# EAGLE library part TPS22918DBVR (library TPS22918DBVR)
5.5V, 2A, 52m load switch with adjustable rise time and adjustable quick output discharge Source: Datasheet <http://www.ti.com/lit/gpn/TPS22918>
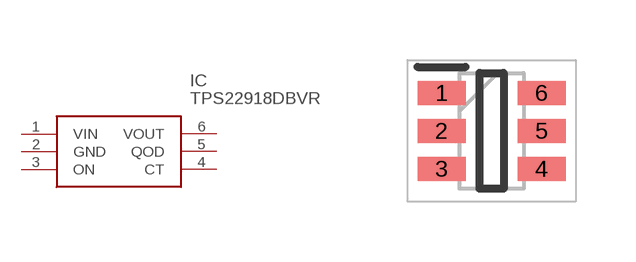
[diagram p0: symbol with the pads of SOT95P280X145-6N; footprint SOT95P280X145-6N]

Designator prefix IC

## TPS22918DBVR (Arrow_Part_Number: TPS22918DBVR; Arrow_Price-Stock: https://www.arrow.com/en/products/tps22918dbvr/texas-instruments?utm_currency=USD&region=nac; Description: 5.5V, 2A, 52m load switch with adjustable rise time and adjustable quick output discharge; Height: 1.45mm; Manufacturer_Name: Texas Instruments; Manufacturer_Part_Number: TPS22918DBVR; Mouser_Part_Number: 595-TPS22918DBVR; Mouser_Price-Stock: https://www.mouser.co.uk/ProductDetail/Texas-Instruments/TPS22918DBVR?qs=f4l5qYp%2Fy%252B5F7w5ZAgmi7A%3D%3D)  [SOT95P280X145-6N]
1  VIN
2  GND
3  ON
4  CT
5  QOD
6  VOUT

## Footprint SOT95P280X145-6N (pad centres in mm)
DBV0006A
smd 1.2 x 0.6: 1 -1.25,0.95; 2 -1.25,0; 3 -1.25,-0.95; 4 1.25,-0.95; 5 1.25,0; 6 1.25,0.95